# EAGLE library part LGA-14 (library LGA-14_Footprint)
MEMS digital output motion sensor: ultra low-power high performance 3-axes femto accelerometer Check availability <https://pricing.snapeda.com/parts/LIS2DHTR/STMicroelectronics/view-part?ref=eda>
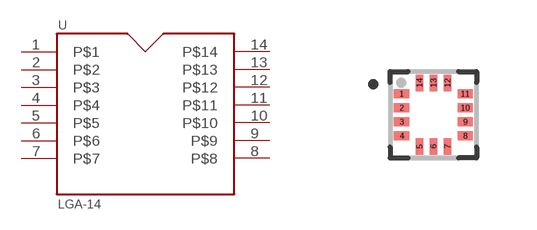
[diagram p0: symbol with the pads of PQFN35P200X200X100-14N; footprint PQFN35P200X200X100-14N]

Designator prefix U

## LGA-14 (AVAILABILITY: In Stock; MF: GENERIC; MP: LGA-14; PACKAGE: None; PRICE: None)  [PQFN35P200X200X100-14N]
1  P$1
2  P$2
3  P$3
4  P$4
5  P$5
6  P$6
7  P$7
8  P$8
9  P$9
10  P$10
11  P$11
12  P$12
13  P$13
14  P$14

## Footprint PQFN35P200X200X100-14N (pad centres in mm)
smd 0.39 x 0.2: 1 -0.795,0.525; 2 -0.795,0.175; 3 -0.795,-0.175; 4 -0.795,-0.525; 8 0.795,-0.525; 9 0.795,-0.175; 10 0.795,0.175; 11 0.795,0.525
smd 0.2 x 0.39: 5 -0.35,-0.795; 6 0,-0.795; 7 0.35,-0.795; 12 0.35,0.795; 13 0,0.795; 14 -0.35,0.795